# Altium footprint library 常用器件.PcbLib: 6 footprints
Each footprint in its own frame and in the unit in brackets; x right, y up, seen from the top. Pads: shape width x height; smd on the part's side, far side on the other; paste and mask are expansions set on the pad; w line width, h text height; cw(c..) or ccw(c..) is an arc to the next point about the centre after c.
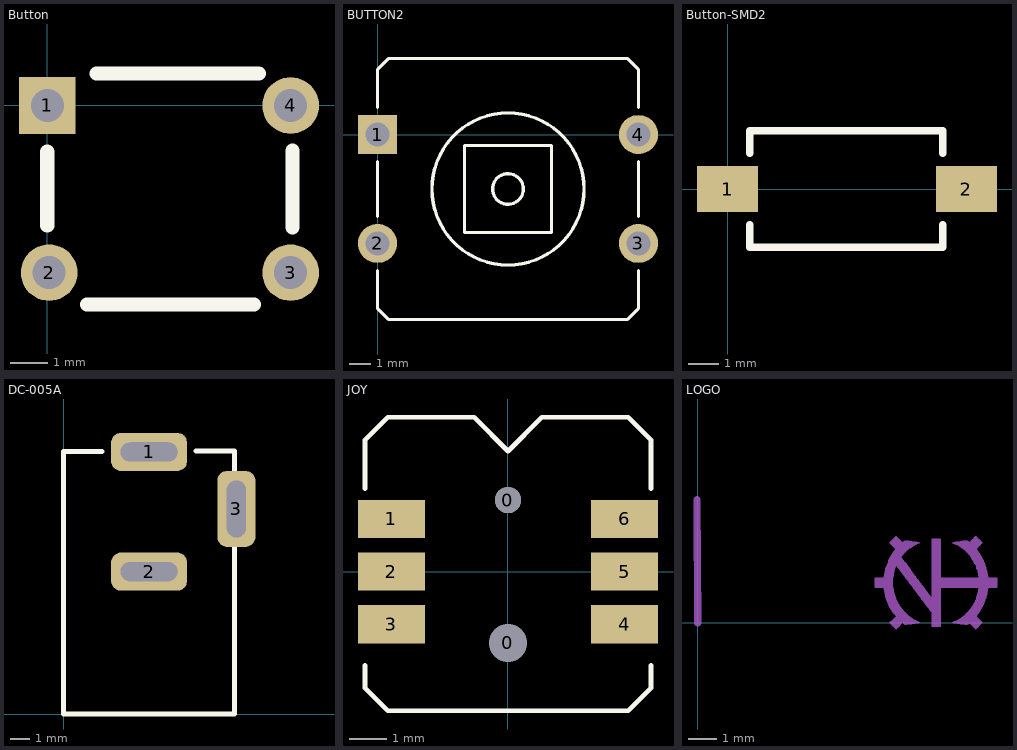
[diagram p0: the footprints below, top view; thin cyan lines are the x and y axes]

## Button [mil] "按键"
pads (4):
  rect 60x60 hole 35: 1(0,0)
  round 60 hole 35: 2(2,-177.17) 3(257.91,-177.17) 4(257.91,0)
Top Overlay:
  lines w15: 0,-127 0,-49 ; 42,-211 219,-211 ; 52,34 224,34 ; 260,-129 260,-48
3D body: height 39.37, standoff -19.68, extent 238.27,-19.6 277.6,19.73
3D body: height 39.37, standoff -19.68, extent 238.27,-196.76 277.6,-157.43
3D body: height 39.37, standoff -19.68, extent -17.64,-196.76 21.69,-157.43
3D body: height 39.37, standoff -19.68, extent -19.64,-19.6 19.69,19.73
3D body: height 137.8, standoff 19.68, extent 0.02,-209.98 255.98,33.98
3D body: height 157.48, standoff 118.11, extent 9.6,-198.25 48.93,-158.92
3D body: height 157.48, standoff 118.11, extent 9.6,-18.25 48.93,21.08
3D body: height 275.59, standoff 19.68, extent 67.95,-149.59 189.96,-27.58
3D body: height 157.48, standoff 118.11, extent 209.6,-198.25 248.93,-158.92
3D body: height 157.48, standoff 118.11, extent 209.6,-18.25 248.93,21.08
3D body: height 149.61, standoff 137.8, extent 0.02,-209.98 255.98,33.98

## BUTTON2 [mm]
pads (4):
  rect 1.8x1.8 hole 1.1: 1(0,0)
  round 1.8 hole 1.1: 2(0,-5) 3(12,-5) 4(12,0)
Top Overlay:
  circle w0.15: c6,-2.5 r3.5
  circle w0.15: c6,-2.5 r0.707
  lines w0.15: 0,-6.25 0,-8 0.5,-8.5 11.5,-8.5 12,-8 12,-6.25 ; 0,-3.75 0,-1.25 ; 0,1.25 0,3 0.5,3.5 11.5,3.5 12,3 12,1.25 ; 12,-3.75 12,-1.25 ; 4,-4.5 4,-0.5 8,-0.5 8,-4.5 4,-4.5

## Button-SMD2 [mm] "2脚贴片按键"
pads (2):
  rect 2x1.5 smd: 1(0,0) 2(7.8,0)
Top Overlay:
  lines w0.254: 0.725,-1.168 0.725,-1.9 7.025,-1.9 7.025,-1.168 ; 0.725,1.168 0.725,1.9 7.025,1.9 7.025,1.168
3D body "SMD按键.S": height 2.5, standoff 0, extent -0.059,-1.945 7.831,1.905

## DC-005A [mm]
pads (3):
  rrect50% 4x2 hole 1 slot 3 at 0 deg: 1(4.5,13.8) 2(4.5,7.5)
  rrect50% 2x4 hole 1 slot 3 at 90 deg: 3(9.1,10.8)
Top Overlay:
  lines w0.254: 2.018,13.818 0,13.818 0,0 9,0 9,8.8 ; 6.957,13.843 9,13.843 9,12.8
3D body "User Library-dc range - dc connector[4840_2201].STEP": height 11.02, standoff -3.48, extent -0.003,0.017 9.503,13.843

## JOY [mm]
pads (8):
  round 1 hole 1 unplated: 0(0,-1.9)
  round 0.7 hole 0.7 unplated: 0(0,1.9)
  rect 1.778x1.016 smd: 1(-3.1,1.4) 2(-3.1,0) 3(-3.1,-1.4) 4(3.1,-1.4) 5(3.1,0) 6(3.1,1.4)
Top Overlay:
  lines w0.127: -3.8,-2.5 -3.8,-3.1 -3.2,-3.7 2.6,-3.7 3.2,-3.7 3.8,-3.1 3.8,-2.5 ; -3.8,2.2 -3.8,3.5 -3.2,4.1 -0.9,4.1 0,3.2 0.9,4.1 3.2,4.1 3.8,3.5 3.8,2.2

## LOGO [mm]
Top Solder:
  drawing of 956 lines, arcs and shapes, not listed
  text "NTXC" at 0.762,1.474 h2.29
  text "Designed by" at 0.762,3.726 h1.27
  text "Ver 1.0" at 0.635,-0.111 h1.4